# Altium footprint library SamacSys.PcbLib: 10 footprints
Each footprint in its own frame and in the unit in brackets; x right, y up, seen from the top. Pads: shape width x height; smd on the part's side, far side on the other; paste and mask are expansions set on the pad; w line width, h text height; cw(c..) or ccw(c..) is an arc to the next point about the centre after c.
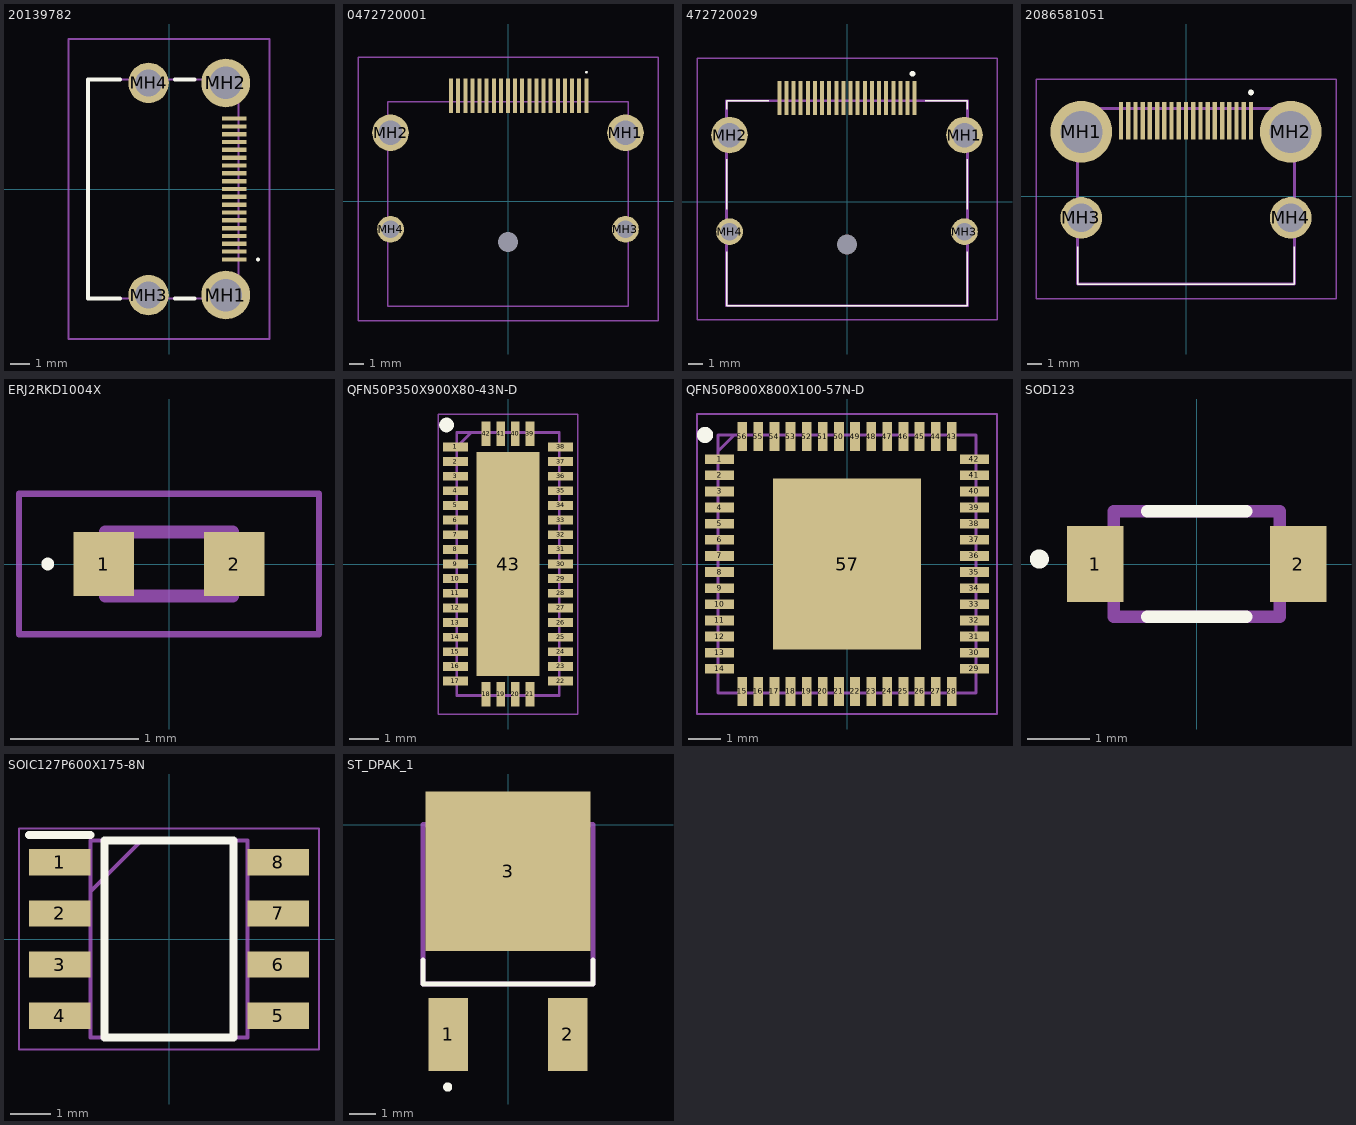
[diagram p0: the footprints below, top view; thin cyan lines are the x and y axes]

## 20139782 [mm]
pads (23):
  rect 1.25x0.22 smd: 1(3.327,-3.6) 2(3.327,-3.2) 3(3.327,-2.8) 4(3.327,-2.4) 5(3.327,-2) 6(3.327,-1.6) 7(3.327,-1.2) 8(3.327,-0.8) 9(3.327,-0.4) 10(3.327,0) 11(3.327,0.4) 12(3.327,0.8) 13(3.327,1.2) 14(3.327,1.6) 15(3.327,2) 16(3.327,2.4) 17(3.327,2.8) 18(3.327,3.2) 19(3.327,3.6)
  round 2.49 hole 1.66: MH1(2.902,-5.425) MH2(2.902,5.425)
  round 2.07 hole 1.38: MH3(-1.048,-5.425) MH4(-1.048,5.425)
Top Overlay:
  lines w0.1: 4.5,-3.6 cw(c4.55,-3.6) 4.6,-3.6 cw(c4.55,-3.6) 4.5,-3.6
  lines w0.2: -2.498,-5.6 -4.148,-5.6 -4.148,5.6 -2.498,5.6 ; 0.302,-5.6 1.302,-5.6 ; 0.302,5.6 1.302,5.6
Mechanical 13:
  lines w0.1: -4.148,-5.6 3.552,-5.6 3.552,5.6 -4.148,5.6 -4.148,-5.6
Mechanical 15:
  lines w0.1: -5.148,-7.67 5.147,-7.67 ; -5.148,-7.67 -5.148,7.67 ; -5.148,-7.67 5.147,-7.67 ; -5.148,-7.67 -5.148,7.67 ; -5.148,7.67 5.147,7.67 ; -5.148,7.67 5.147,7.67 ; 5.147,-7.67 5.147,7.67 ; 5.147,-7.67 5.147,7.67
3D body "2013978-2.stp": height 3.45, standoff -0.6, extent -4.15,-5.52 3.55,5.68

## 0472720001 [mm]
pads (25):
  rect 0.28x2.4 smd: 1(5.5,7.4) 2(5,7.4) 3(4.5,7.4) 4(4,7.4) 5(3.5,7.4) 6(3,7.4) 7(2.5,7.4) 8(2,7.4) 9(1.5,7.4) 10(1,7.4) 11(0.5,7.4) 12(0,7.4) 13(-0.5,7.4) 14(-1,7.4) 15(-1.5,7.4) 16(-2,7.4) 17(-2.5,7.4) 18(-3,7.4) 19(-3.5,7.4) 20(-4,7.4)
  round 2.565 hole 1.71: MH1(8.25,4.8) MH2(-8.25,4.8)
  round 1.875 hole 1.25: MH3(8.25,-1.98) MH4(-8.25,-1.98)
  round 0.7 hole 1.4 unplated: MH5(0,-2.88)
Top Overlay:
  lines w0.1: 5.5,9 cw(c5.5,9.05) 5.5,9.1 cw(c5.5,9.05) 5.5,9
Mechanical 13:
  lines w0.1: -8.45,-7.4 -8.45,6.99 8.45,6.99 8.45,-7.4 -8.45,-7.4
Mechanical 15:
  lines w0.1: -10.533,-8.4 -10.533,10.1 10.533,10.1 10.533,-8.4 -10.533,-8.4
3D body "0472720001.stp": height 6.63, standoff -2.12, extent -8.895,-7.13 8.89,7.76

## 472720029 [mm]
pads (25):
  rect 0.28x2.4 smd: 1(4.75,7.29) 2(4.25,7.29) 3(3.75,7.29) 4(3.25,7.29) 5(2.75,7.29) 6(2.25,7.29) 7(1.75,7.29) 8(1.25,7.29) 9(0.75,7.29) 10(0.25,7.29) 11(-0.25,7.29) 12(-0.75,7.29) 13(-1.25,7.29) 14(-1.75,7.29) 15(-2.25,7.29) 16(-2.75,7.29) 17(-3.25,7.29) 18(-3.75,7.29) 19(-4.25,7.29) 20(-4.75,7.29)
  round 2.565 hole 1.71: MH1(8.25,4.69) MH2(-8.25,4.69)
  round 1.875 hole 1.25: MH3(8.25,-2.09) MH4(-8.25,-2.09)
  round 0.7 hole 1.4 unplated: MH5(0,-2.99)
Top Overlay:
  lines w0.1: -8.45,-3.5 -8.45,-7.29 8.45,-7.29 8.45,-3.5 ; -8.45,-0.5 -8.45,3 ; -8.45,6.5 -8.45,7.1 -5.5,7.1 ; 5.5,7.1 8.45,7.1 8.45,6.5 ; 8.45,-0.5 8.45,3
  lines w0.2: 4.5,9 cw(c4.6,9) 4.7,9 cw(c4.6,9) 4.5,9
Mechanical 13:
  lines w0.2: -8.45,-7.29 -8.45,7.1 8.45,7.1 8.45,-7.29 -8.45,-7.29
Mechanical 15:
  lines w0.1: -10.533,-8.29 -10.533,10.1 10.533,10.1 10.533,-8.29 -10.533,-8.29
3D body "47272-0029.stp": height 6.71, standoff -1.94, extent -9.605,-7.41 8.18,7.48

## 2086581051 [mm]
pads (23):
  rect 0.3x2.6 smd: 1(4.5,5.235) 2(4,5.235) 3(3.5,5.235) 4(3,5.235) 5(2.5,5.235) 6(2,5.235) 7(1.5,5.235) 8(1,5.235) 9(0.5,5.235) 10(0,5.235) 11(-0.5,5.235) 12(-1,5.235) 13(-1.5,5.235) 14(-2,5.235) 15(-2.5,5.235) 16(-3,5.235) 17(-3.5,5.235) 18(-4,5.235) 19(-4.5,5.235)
  round 4.275 hole 2.909: MH1(-7.25,4.475) MH2(7.25,4.475)
  round 2.88 hole 1.992: MH3(-7.25,-1.485) MH4(7.25,-1.485)
Top Overlay:
  lines w0.1: -7.5,-3.5 -7.5,-6.075 7.5,-6.075 7.5,-3.5
  lines w0.2: 4.5,7.1 cw(c4.5,7.2) 4.5,7.3 cw(c4.5,7.2) 4.5,7.1
Mechanical 13:
  lines w0.2: -7.5,-6.075 -7.5,6.075 7.5,6.075 7.5,-6.075 -7.5,-6.075
Mechanical 15:
  lines w0.1: -10.387,-7.075 -10.387,8.1 10.387,8.1 10.387,-7.075 -10.387,-7.075
3D body "208658-1051.stp": height 6.18, standoff -2.21, extent -7.499,-5.99 7.501,6.16

## ERJ2RKD1004X [mm]
pads (2):
  rect 0.475x0.5 smd: 1(-0.512,0) 2(0.512,0)
Top Overlay:
  lines w0.05: -0.95,-0.025 ccw(c-0.95,0) -0.95,0.025 ccw(c-0.95,0) -0.95,-0.025
Mechanical 13:
  lines w0.1: -0.5,-0.25 -0.5,0.25 0.5,0.25 0.5,-0.25 -0.5,-0.25
Mechanical 15:
  lines w0.05: -1.175,-0.55 -1.175,0.55 1.175,0.55 1.175,-0.55 -1.175,-0.55
3D body "ERJ-2RKF4702X.stp": height 0.35, standoff 0, extent -0.5,-0.25 0.5,0.25

## QFN50P350X900X80-43N-D [mm]
pads (43):
  rect 0.85x0.3 smd: 1(-1.8,4) 2(-1.8,3.5) 3(-1.8,3) 4(-1.8,2.5) 5(-1.8,2) 6(-1.8,1.5) 7(-1.8,1) 8(-1.8,0.5) 9(-1.8,0) 10(-1.8,-0.5) 11(-1.8,-1) 12(-1.8,-1.5) 13(-1.8,-2) 14(-1.8,-2.5) 15(-1.8,-3) 16(-1.8,-3.5) 17(-1.8,-4) 22(1.8,-4) 23(1.8,-3.5) 24(1.8,-3) 25(1.8,-2.5) 26(1.8,-2) 27(1.8,-1.5) 28(1.8,-1) 29(1.8,-0.5) 30(1.8,0) 31(1.8,0.5) 32(1.8,1) 33(1.8,1.5) 34(1.8,2) 35(1.8,2.5) 36(1.8,3) 37(1.8,3.5) 38(1.8,4)
  rect 0.3x0.85 smd: 18(-0.75,-4.45) 19(-0.25,-4.45) 20(0.25,-4.45) 21(0.75,-4.45) 39(0.75,4.45) 40(0.25,4.45) 41(-0.25,4.45) 42(-0.75,4.45)
  rect 2.15x7.65 smd: 43(0,0)
Top Overlay:
  circle w0.25: c-2.1,4.75 r0.125
Mechanical 13:
  lines w0.1: -1.75,4 -1.25,4.5 ; -1.75,-4.5 -1.75,4.5 1.75,4.5 1.75,-4.5 -1.75,-4.5
Mechanical 15:
  lines w0.05: -2.375,-5.125 -2.375,5.125 2.375,5.125 2.375,-5.125 -2.375,-5.125
3D body "TS3DV642RUARQ1.stp": height 0.8, standoff 0, extent -1.75,-4.5 1.75,4.5

## QFN50P800X800X100-57N-D [mm]
pads (57):
  rect 0.9x0.3 smd: 1(-3.95,3.25) 2(-3.95,2.75) 3(-3.95,2.25) 4(-3.95,1.75) 5(-3.95,1.25) 6(-3.95,0.75) 7(-3.95,0.25) 8(-3.95,-0.25) 9(-3.95,-0.75) 10(-3.95,-1.25) 11(-3.95,-1.75) 12(-3.95,-2.25) 13(-3.95,-2.75) 14(-3.95,-3.25) 29(3.95,-3.25) 30(3.95,-2.75) 31(3.95,-2.25) 32(3.95,-1.75) 33(3.95,-1.25) 34(3.95,-0.75) 35(3.95,-0.25) 36(3.95,0.25) 37(3.95,0.75) 38(3.95,1.25) 39(3.95,1.75) 40(3.95,2.25) 41(3.95,2.75) 42(3.95,3.25)
  rect 0.3x0.9 smd: 15(-3.25,-3.95) 16(-2.75,-3.95) 17(-2.25,-3.95) 18(-1.75,-3.95) 19(-1.25,-3.95) 20(-0.75,-3.95) 21(-0.25,-3.95) 22(0.25,-3.95) 23(0.75,-3.95) 24(1.25,-3.95) 25(1.75,-3.95) 26(2.25,-3.95) 27(2.75,-3.95) 28(3.25,-3.95) 43(3.25,3.95) 44(2.75,3.95) 45(2.25,3.95) 46(1.75,3.95) 47(1.25,3.95) 48(0.75,3.95) 49(0.25,3.95) 50(-0.25,3.95) 51(-0.75,3.95) 52(-1.25,3.95) 53(-1.75,3.95) 54(-2.25,3.95) 55(-2.75,3.95) 56(-3.25,3.95)
  rect 4.6x5.3 smd: 57(0,0)
Top Overlay:
  circle w0.25: c-4.4,4 r0.125
Mechanical 13:
  lines w0.1: -4,3.5 -3.5,4 ; -4,-4 -4,4 4,4 4,-4 -4,-4
Mechanical 15:
  lines w0.05: -4.65,-4.65 -4.65,4.65 4.65,4.65 4.65,-4.65 -4.65,-4.65
3D body "HD3SS215RTQR.stp": height 1, standoff 0, extent -4,-4 4,4

## SOD123 [mm]
pads (2):
  rect 0.91x1.22 smd: 1(-1.635,0) 2(1.635,0)
Top Overlay:
  circle w0.2: c-2.54,0.08 r0.053
  lines w0.2: -0.8,-0.85 0.8,-0.85 ; -0.8,0.85 0.8,0.85
Mechanical 13:
  lines w0.2: -1.338,-0.85 -1.338,0.85 1.338,0.85 1.338,-0.85 -1.338,-0.85
3D body "BAT54GWJ.stp": height 1.2, standoff 0, extent -1.816,-0.804 1.784,0.796

## SOIC127P600X175-8N [mm]
pads (8):
  rect 1.525x0.65 smd: 1(-2.712,1.905) 2(-2.712,0.635) 3(-2.712,-0.635) 4(-2.712,-1.905) 5(2.712,-1.905) 6(2.712,-0.635) 7(2.712,0.635) 8(2.712,1.905)
Top Overlay:
  lines w0.2: -3.475,2.58 -1.95,2.58 ; -1.6,-2.45 1.6,-2.45 1.6,2.45 -1.6,2.45 -1.6,-2.45
Mechanical 13:
  lines w0.1: -1.95,1.18 -0.68,2.45 ; -1.95,-2.45 1.95,-2.45 1.95,2.45 -1.95,2.45 -1.95,-2.45
Mechanical 15:
  lines w0.05: -3.725,-2.75 3.725,-2.75 3.725,2.75 -3.725,2.75 -3.725,-2.75
3D body "NE555DR.stp": height 1.75, standoff 0, extent -3,-2.45 3,2.45

## ST_DPAK_1 [mm]
pads (3):
  rect 1.5x2.8 smd: 1(-2.286,-8.03) 2(2.286,-8.03)
  rect 6.3x6.1 smd: 3(0,-1.78)
Top Overlay:
  circle w0.2: c-2.31,-10.043 r0.075
  lines w0.2: -3.25,-5.177 -3.25,-6.1 3.25,-6.1 3.25,-5.177
Mechanical 13:
  lines w0.2: -3.25,-6.1 -3.25,0 3.25,0 3.25,-6.1 -3.25,-6.1
3D body "LD29150DT33R.stp": height 2.33, standoff 0, extent -3.25,-9.147 3.25,0.265